# EAGLE library part ECEN5517_FLYBACK (library m_misc)
Flyback Transformer used in ECEN5517 Flyback Converter
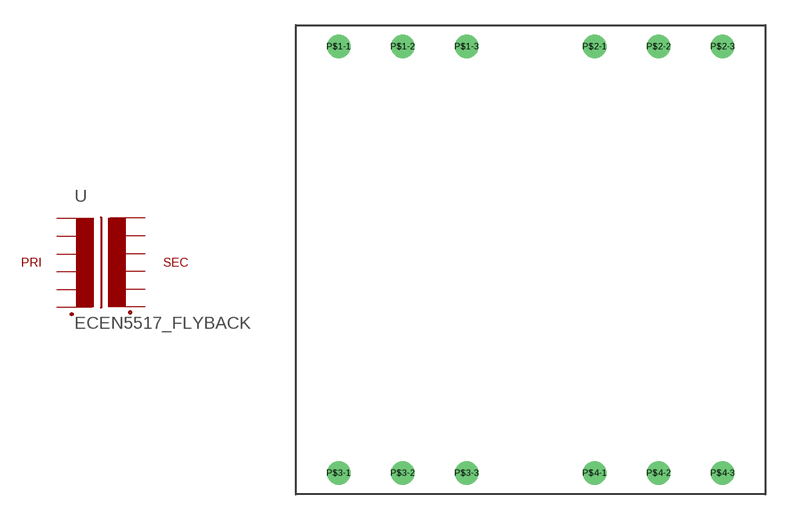
[diagram p19: symbol with the pads of PQ26/25; footprint PQ26/25]

Designator prefix -

## ECEN5517_FLYBACK  [PQ26/25]
P$1-1  PRI_DOT  pas
P$1-2  PRI_DOT1  pas
P$1-3  PRI_DOT2  pas
P$2-1  PRI_NOTDOT  pas
P$2-2  PRI_NOTDOT1  pas
P$2-3  PRI_NOTDOT2  pas
P$3-1  SEC_DOT  pas
P$3-2  SEC_DOT1  pas
P$3-3  SEC_DOT2  pas
P$4-1  SEC_NOTDOT  pas
P$4-2  SEC_NOTDOT1  pas
P$4-3  SEC_NOTDOT2  pas

## Footprint PQ26/25 (pad centres in mm)
drill 0.889: P$1-1 -11.43,12.7; P$1-2 -7.62,12.7; P$1-3 -3.81,12.7; P$2-1 3.81,12.7; P$2-2 7.62,12.7; P$2-3 11.43,12.7; P$3-1 -11.43,-12.7; P$3-2 -7.62,-12.7; P$3-3 -3.81,-12.7; P$4-1 3.81,-12.7; P$4-2 7.62,-12.7; P$4-3 11.43,-12.7